# Altium footprint library LEO_COTS_components.PcbLib: 12 footprints
Each footprint in its own frame and in the unit in brackets; x right, y up, seen from the top. Pads: shape width x height; smd on the part's side, far side on the other; paste and mask are expansions set on the pad; w line width, h text height; cw(c..) or ccw(c..) is an arc to the next point about the centre after c.
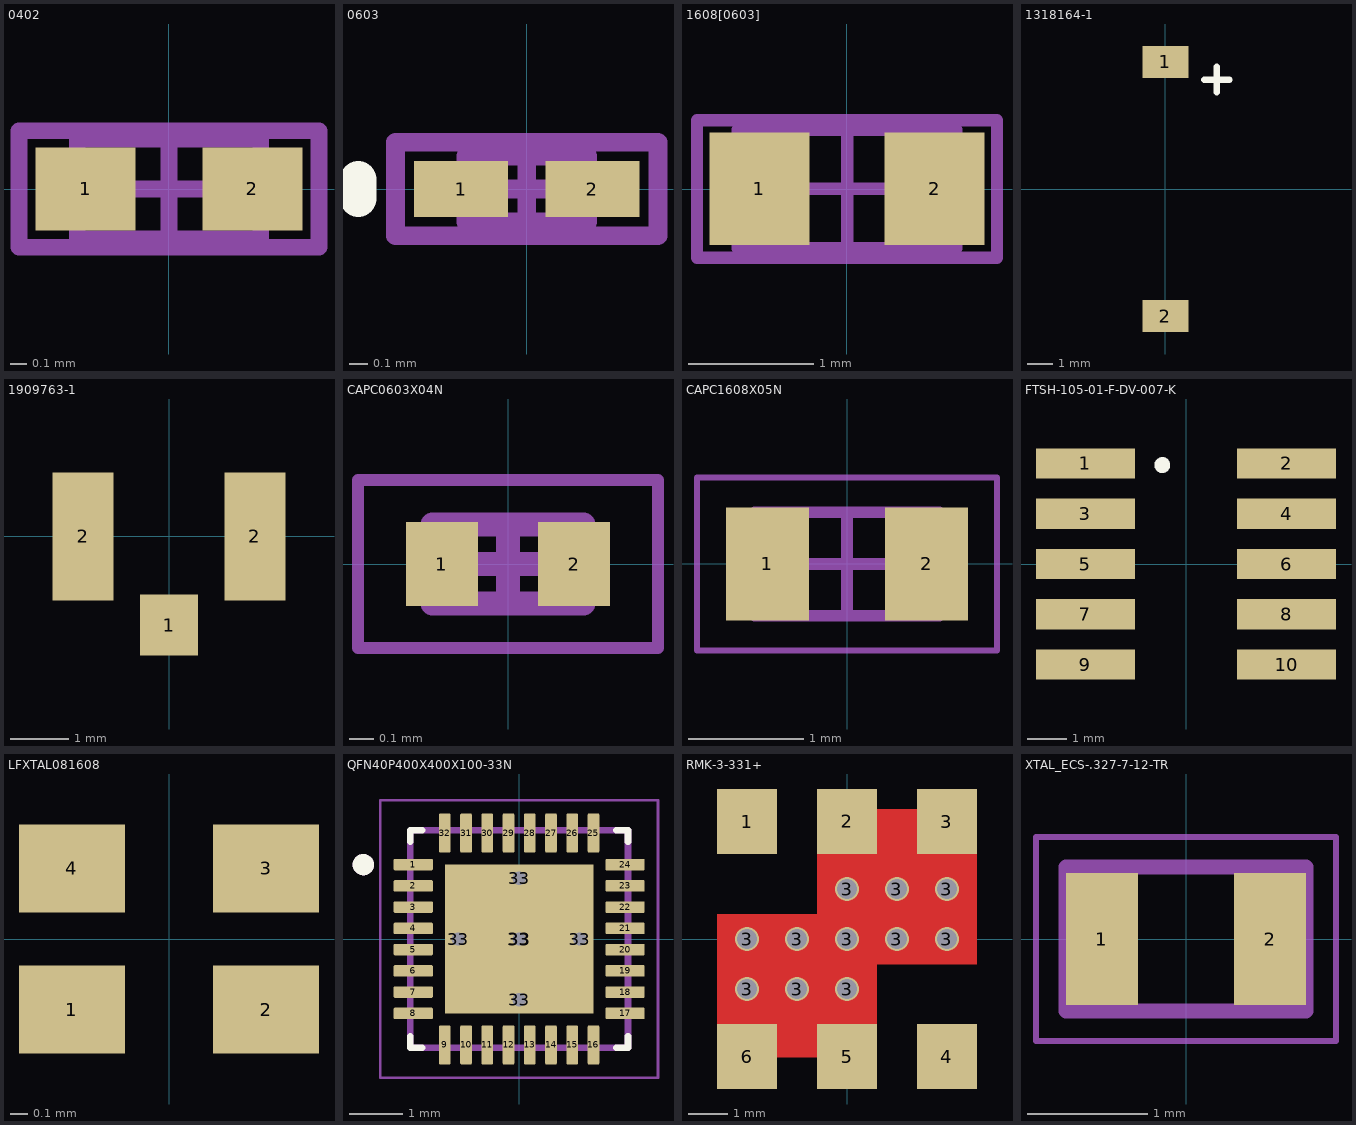
[diagram p0: the footprints below, top view; thin cyan lines are the x and y axes]

## 0402 [mm] "Chip Capacitor, Body 1.0x0.5mm, IPC High Density"
height 1.3
pads (2):
  rect 0.6x0.5 smd: 1(-0.5,0) 2(0.5,0)
Mechanical 13:
  lines w0.1: -0.55,-0.3 0.55,-0.3 0.55,0.3 -0.55,0.3 -0.55,-0.3
Mechanical 15:
  lines w0.1: -0.3,0 0.3,0 ; 0,-0.3 0,0.3 ; -0.9,-0.35 0.9,-0.35 0.9,0.35 -0.9,0.35 -0.9,-0.35
3D body: height 1.3, standoff 0, extent -0.55,-0.3 0.55,0.3

## 0603 [mm] "Chip Inductor, Body 0.6x0.3mm, IPC High Density"
height 0.55
pads (2):
  rect 0.5x0.3 smd: 1(-0.35,0) 2(0.35,0)
Top Overlay:
  lines w0.2: -0.9,-0.05 -0.9,0.05
Mechanical 13:
  lines w0.1: -0.325,-0.175 -0.325,0.175 0.325,0.175 0.325,-0.175 -0.325,-0.175
Mechanical 15:
  lines w0.1: -0.175,0 0.175,0 ; 0,-0.175 0,0.175 ; -0.7,-0.25 -0.7,0.25 0.7,0.25 0.7,-0.25 -0.7,-0.25
3D body: height 0.55, standoff 0, extent -0.325,-0.175 0.325,0.175

## 1608[0603] [mm] "Chip Capacitor, Body 1.6x0.8mm, IPC High Density"
height 1.3
pads (2):
  rect 0.8x0.9 smd: 1(-0.7,0) 2(0.7,0)
Mechanical 13:
  lines w0.1: -0.875,-0.475 0.875,-0.475 0.875,0.475 -0.875,0.475 -0.875,-0.475
Mechanical 15:
  lines w0.1: -0.475,0 0.475,0 ; 0,-0.475 0,0.475 ; -1.2,-0.55 1.2,-0.55 1.2,0.55 -1.2,0.55 -1.2,-0.55
3D body: height 1.3, standoff 0, extent -0.875,-0.475 0.875,0.475

## 1318164-1 [mm] "BATTERY HOLDER COIN 6.8MM SMD"
height 2.3
pads (2):
  rect 1.8x1.25 smd: 1(0,5) 2(0,-5)
Top Overlay:
  lines w0.254: 1.521,4.3 2.521,4.3 ; 2.021,3.8 2.021,4.8
3D body "c-1318164-1-o-3d.stp": height 2.3, standoff 0, extent -3.35,-5.2 3.35,5.2

## 1909763-1 [mm]
pads (3):
  rect 1x1.05 smd: 1(0,-1.525)
  rect 1.05x2.2 smd: 2(-1.475,0) 2(1.475,0)
3D body "c-1909763-1-b-3d.stp": height 1.22, standoff -0.01, extent -1.5,-1.55 1.5,1.55

## CAPC0603X04N [mm] "Chip Capacitor, 2-Leads, Body 0.60x0.30mm, IPC Medium Density"
height 0.35
pads (2):
  rect 0.3x0.35 smd: 1(-0.275,0) 2(0.275,0)
Mechanical 13:
  lines w0.1: -0.315,-0.165 -0.315,0.165 0.315,0.165 0.315,-0.165 -0.315,-0.165
Mechanical 15:
  lines w0.05: -0.625,-0.35 -0.625,0.35 0.625,0.35 0.625,-0.35 -0.625,-0.35
  lines w0.1: -0.165,0 0.165,0 ; 0,-0.165 0,0.165
3D body "CAPC0603X04N.step": height 0.35, standoff 0, extent -0.315,-0.165 0.315,0.165

## CAPC1608X05N [mm] "Chip Capacitor, 2-Leads, Body 1.55x0.85mm, IPC Medium Density"
height 0.5
pads (2):
  rect 0.72x0.98 smd: 1(-0.69,0) 2(0.69,0)
Mechanical 13:
  lines w0.1: -0.8,-0.45 0.8,-0.45 0.8,0.45 -0.8,0.45 -0.8,-0.45
Mechanical 15:
  lines w0.05: -1.3,-0.75 1.3,-0.75 1.3,0.75 -1.3,0.75 -1.3,-0.75
  lines w0.1: -0.45,0 0.45,0 ; 0,-0.45 0,0.45
3D body "CAPC1608X05N.step": height 0.5, standoff 0, extent -0.8,-0.45 0.8,0.45

## FTSH-105-01-F-DV-007-K [mm]
pads (10):
  rect 2.5x0.762 smd: 1(-2.54,2.54) 2(2.54,2.54) 3(-2.54,1.27) 4(2.54,1.27) 5(-2.54,0) 6(2.54,0) 7(-2.54,-1.27) 8(2.54,-1.27) 9(-2.54,-2.54) 10(2.54,-2.54)
Top Overlay:
  circle w0.2: c-0.6,2.5 r0.1
3D body "FTSH-105-01-L-DV-007-K.stp": height 6.1, standoff -0.03, extent -2.921,-3.175 2.921,3.175

## LFXTAL081608 [mm] "1.6mm x 1.2mm SMD crystal"
height 0.45
pads (4):
  rect 0.6x0.5 smd: 1(-0.55,-0.4) 2(0.55,-0.4) 3(0.55,0.4) 4(-0.55,0.4)
3D body: height 0.4, standoff 0, extent -0.8,-0.6 0.8,0.6

## QFN40P400X400X100-33N [mm]
pads (38):
  rrect25% 0.74x0.22 smd: 1(-1.995,1.4) 2(-1.995,1) 3(-1.995,0.6) 4(-1.995,0.2) 5(-1.995,-0.2) 6(-1.995,-0.6) 7(-1.995,-1) 8(-1.995,-1.4) 17(1.995,-1.4) 18(1.995,-1) 19(1.995,-0.6) 20(1.995,-0.2) 21(1.995,0.2) 22(1.995,0.6) 23(1.995,1) 24(1.995,1.4)
  rrect25% 0.22x0.74 smd: 9(-1.4,-1.995) 10(-1,-1.995) 11(-0.6,-1.995) 12(-0.2,-1.995) 13(0.2,-1.995) 14(0.6,-1.995) 15(1,-1.995) 16(1.4,-1.995) 25(1.4,1.995) 26(1,1.995) 27(0.6,1.995) 28(0.2,1.995) 29(-0.2,1.995) 30(-0.6,1.995) 31(-1,1.995) 32(-1.4,1.995)
  round 0.508 hole 0.254: 33(-1.143,0) 33(0,-1.143) 33(0,0) 33(0,1.143) 33(1.143,0)
  rect 2.8x2.8 smd paste-2: 33(0,0)
Top Overlay:
  circle w0.2: c-2.935,1.4 r0.1
  lines w0.127: -2.05,-1.83 -2.05,-2.05 -1.83,-2.05 ; -2.05,1.83 -2.05,2.05 -1.83,2.05 ; 1.83,-2.05 2.05,-2.05 2.05,-1.83 ; 1.83,2.05 2.05,2.05 2.05,1.83
Top Paste:
  region: -0.1,-1.33 -1.33,-1.33 -1.33,-0.1 -0.1,-0.1
  region: 1.33,-1.33 0.1,-1.33 0.1,-0.1 1.33,-0.1
  region: 1.33,0.1 0.1,0.1 0.1,1.33 1.33,1.33
  region: -0.1,0.1 -1.33,0.1 -1.33,1.33 -0.1,1.33
Mechanical 13:
  circle w0.2: c-2.935,1.4 r0.1
  lines w0.127: -2.05,-2.05 -2.05,2.05 2.05,2.05 2.05,-2.05 -2.05,-2.05
Mechanical 15:
  lines w0.05: -2.615,-2.615 -2.615,2.615 2.615,2.615 2.615,-2.615 -2.615,-2.615
3D body: height 1, standoff 0, extent -2,-2 2,2

## RMK-3-331+ [mil] "MiniCircuits TT12245 case"
height 161.42
pads (17):
  rect 60x65 smd: 1(-100,117.5) 2(0,117.52) 3(100,117.5) 4(100,-117.5) 5(0,-117.5) 6(-100,-117.5)
  round 24 hole 20 mask+4: 3(-100,-50) 3(-100,0) 3(-50,-50) 3(-50,0) 3(0,-50) 3(0,0) 3(0,50) 3(50,0) 3(50,50) 3(100,0) 3(100,50)
Top Layer:
  region: -130,25 -130,-118.11 30,-118.11 30,-25 130,-25 130,129.92 -30,129.92 -30,25
3D body: height 160, standoff 0, extent -155,-130 155,130

## XTAL_ECS-.327-7-12-TR [mm]
pads (2):
  rect 0.6x1.1 smd: 1(-0.7,0) 2(0.7,0)
Mechanical 13:
  lines w0.127: -1,-0.6 -1,0.6 1,0.6 1,-0.6 -1,-0.6
Mechanical 15:
  lines w0.05: -1.25,-0.85 -1.25,0.85 1.25,0.85 1.25,-0.85 -1.25,-0.85
3D body: height 0.25, standoff 0, extent -1,-0.6 1,0.6